# Altium schematic symbol library mcu.SchLib: 2 symbols
Pins are listed as number, name and electrical type; pins without a type are passive.

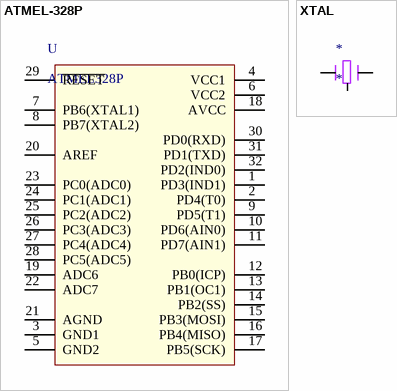
[diagram p0: symbols ATMEL-328P to XTAL]

## ATMEL-328P
designator U, comment ATMEL328P
footprint TQFP 32 (ATMEL 328P)
pins: 1 PD3(IND1) (oc), 2 PD4(T0) (oc), 3 GND1 (oc), 4 VCC1 (power), 5 GND2 (oc), 6 VCC2 (power), 7 PB6(XTAL1) (oc), 8 PB7(XTAL2) (oc), 9 PD5(T1) (oc), 10 PD6(AIN0) (oc), 11 PD7(AIN1) (oc), 12 PB0(ICP) (oc), 13 PB1(OC1) (oc), 14 PB2(SS) (oc), 15 PB3(MOSI) (oc), 16 PB4(MISO) (oc), 17 PB5(SCK) (oc), 18 AVCC (power), 19 ADC6 (oc), 20 AREF (oc), 21 AGND (oc), 22 ADC7 (oc), 23 PC0(ADC0) (oc), 24 PC1(ADC1) (oc), 25 PC2(ADC2) (oc), 26 PC3(ADC3) (oc), 27 PC4(ADC4) (oc), 28 PC5(ADC5) (oc), 29 ~{RESET} (oc), 30 PD0(RXD) (oc), 31 PD1(TXD) (oc), 32 PD2(IND0) (oc)

## XTAL
designator *
footprint XTAL (Chip Array, ConvexE, 6-Leads, Pitch 1.20mm,  Body 3.20x1.50mm,  IPC Medium Density)
pins: 1, 2, 3